# Altium footprint library pcb lib.PcbLib: 160 footprints (part 7 of 10)
Each footprint in its own frame and in the unit in brackets; x right, y up, seen from the top. Pads: shape width x height; smd on the part's side, far side on the other; paste and mask are expansions set on the pad; w line width, h text height; cw(c..) or ccw(c..) is an arc to the next point about the centre after c.
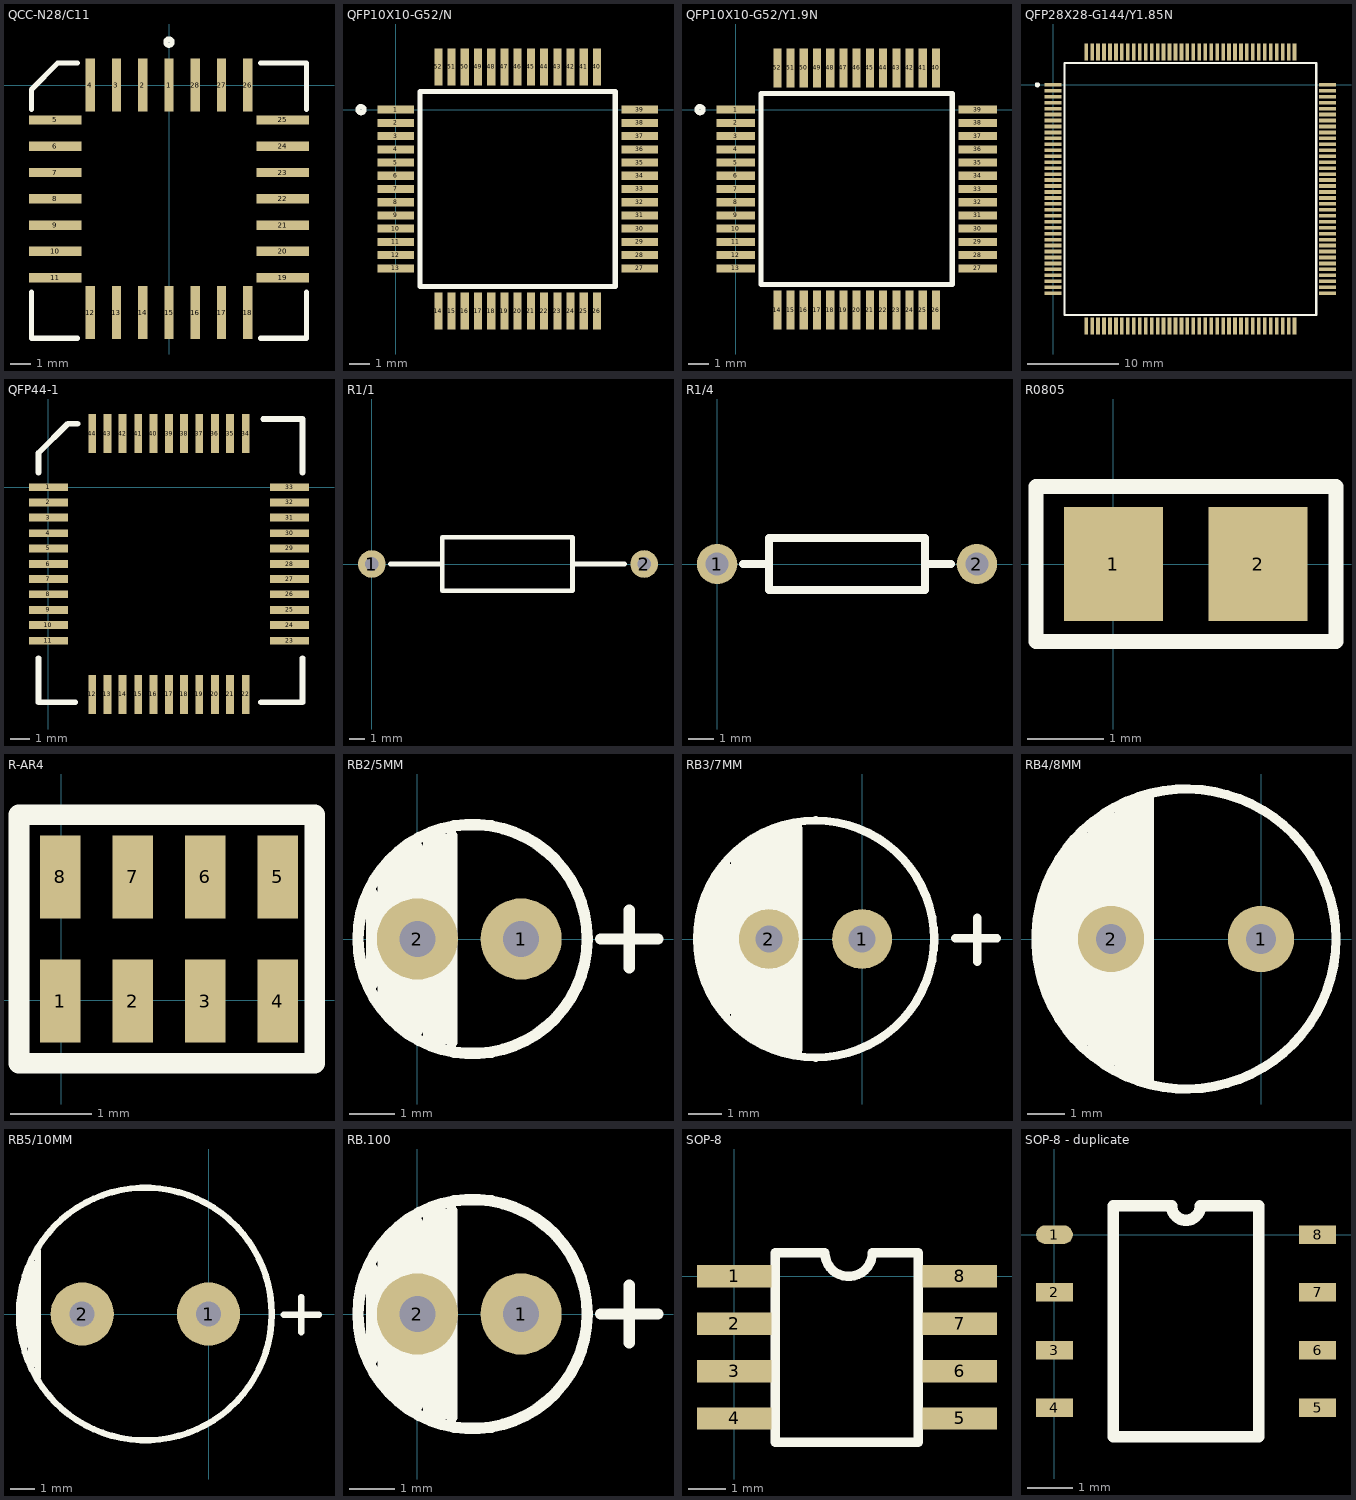
[diagram p6: the footprints below, top view; thin cyan lines are the x and y axes]

## QCC-N28/C11 [mm]
pads (28):
  rect 0.45x2.55 smd: 1(0,0) 2(-1.27,0) 3(-2.54,0) 4(-3.81,0) 12(-3.81,-11) 13(-2.54,-11) 14(-1.27,-11) 15(0,-11) 16(1.27,-11) 17(2.54,-11) 18(3.81,-11) 26(3.81,0) 27(2.54,0) 28(1.27,0)
  rect 2.55x0.45 smd: 5(-5.5,-1.69) 6(-5.5,-2.96) 7(-5.5,-4.23) 8(-5.5,-5.5) 9(-5.5,-6.77) 10(-5.5,-8.04) 11(-5.5,-9.31) 19(5.5,-9.31) 20(5.5,-8.04) 21(5.5,-6.77) 22(5.5,-5.5) 23(5.5,-4.23) 24(5.5,-2.96) 25(5.5,-1.69)
Top Overlay:
  circle w0.25: c0,2.075 r0.15
  lines w0.25: -6.65,-10.007 -6.65,-12.237 -4.42,-12.237 ; -6.65,-1.168 -6.65,-0.212 -5.375,1.063 -4.42,1.063 ; 4.42,-12.237 6.65,-12.237 6.65,-10.007 ; 4.42,1.063 6.65,1.063 6.65,-1.168

## QFP10X10-G52/N [mm]
pads (52):
  rect 1.8x0.4 smd: 1(0,0) 2(0,-0.65) 3(0,-1.3) 4(0,-1.95) 5(0,-2.6) 6(0,-3.25) 7(0,-3.9) 8(0,-4.55) 9(0,-5.2) 10(0,-5.85) 11(0,-6.5) 12(0,-7.15) 13(0,-7.8) 27(12,-7.8) 28(12,-7.15) 29(12,-6.5) 30(12,-5.85) 31(12,-5.2) 32(12,-4.55) 33(12,-3.9) 34(12,-3.25) 35(12,-2.6) 36(12,-1.95) 37(12,-1.3) 38(12,-0.65) 39(12,0)
  rect 0.4x1.8 smd: 14(2.1,-9.9) 15(2.75,-9.9) 16(3.4,-9.9) 17(4.05,-9.9) 18(4.7,-9.9) 19(5.35,-9.9) 20(6,-9.9) 21(6.65,-9.9) 22(7.3,-9.9) 23(7.95,-9.9) 24(8.6,-9.9) 25(9.25,-9.9) 26(9.9,-9.9) 40(9.9,2.1) 41(9.25,2.1) 42(8.6,2.1) 43(7.95,2.1) 44(7.3,2.1) 45(6.65,2.1) 46(6,2.1) 47(5.35,2.1) 48(4.7,2.1) 49(4.05,2.1) 50(3.4,2.1) 51(2.75,2.1) 52(2.1,2.1)
Top Overlay:
  circle w0.25: c-1.7,0 r0.15
  lines w0.25: 1.2,-8.7 10.8,-8.7 10.8,0.9 1.2,0.9 1.2,-8.7

## QFP10X10-G52/Y1.9N [mm]
pads (52):
  rect 1.9x0.4 smd: 1(0,0) 2(0,-0.65) 3(0,-1.3) 4(0,-1.95) 5(0,-2.6) 6(0,-3.25) 7(0,-3.9) 8(0,-4.55) 9(0,-5.2) 10(0,-5.85) 11(0,-6.5) 12(0,-7.15) 13(0,-7.8) 27(11.9,-7.8) 28(11.9,-7.15) 29(11.9,-6.5) 30(11.9,-5.85) 31(11.9,-5.2) 32(11.9,-4.55) 33(11.9,-3.9) 34(11.9,-3.25) 35(11.9,-2.6) 36(11.9,-1.95) 37(11.9,-1.3) 38(11.9,-0.65) 39(11.9,0)
  rect 0.4x1.9 smd: 14(2.05,-9.85) 15(2.7,-9.85) 16(3.35,-9.85) 17(4,-9.85) 18(4.65,-9.85) 19(5.3,-9.85) 20(5.95,-9.85) 21(6.6,-9.85) 22(7.25,-9.85) 23(7.9,-9.85) 24(8.55,-9.85) 25(9.2,-9.85) 26(9.85,-9.85) 40(9.85,2.05) 41(9.2,2.05) 42(8.55,2.05) 43(7.9,2.05) 44(7.25,2.05) 45(6.6,2.05) 46(5.95,2.05) 47(5.3,2.05) 48(4.65,2.05) 49(4,2.05) 50(3.35,2.05) 51(2.7,2.05) 52(2.05,2.05)
Top Overlay:
  circle w0.25: c-1.75,0 r0.15
  lines w0.25: 1.25,-8.6 1.25,0.8 10.65,0.8 10.65,-8.6 1.25,-8.6

## QFP28X28-G144/Y1.85N [mm]
pads (144):
  rect 1.85x0.4 smd: 1(0,0) 2(0,-0.65) 3(0,-1.3) 4(0,-1.95) 5(0,-2.6) 6(0,-3.25) 7(0,-3.9) 8(0,-4.55) 9(0,-5.2) 10(0,-5.85) 11(0,-6.5) 12(0,-7.15) 13(0,-7.8) 14(0,-8.45) 15(0,-9.1) 16(0,-9.75) 17(0,-10.4) 18(0,-11.05) 19(0,-11.7) 20(0,-12.35) 21(0,-13) 22(0,-13.65) 23(0,-14.3) 24(0,-14.95) 25(0,-15.6) 26(0,-16.25) 27(0,-16.9) 28(0,-17.55) 29(0,-18.2) 30(0,-18.85) 31(0,-19.5) 32(0,-20.15) 33(0,-20.8) 34(0,-21.45) 35(0,-22.1) 36(0,-22.75) 73(29.95,-22.75) 74(29.95,-22.1) 75(29.95,-21.45) 76(29.95,-20.8) 77(29.95,-20.15) 78(29.95,-19.5) 79(29.95,-18.85) 80(29.95,-18.2) 81(29.95,-17.55) 82(29.95,-16.9) 83(29.95,-16.25) 84(29.95,-15.6) 85(29.95,-14.95) 86(29.95,-14.3) 87(29.95,-13.65) 88(29.95,-13) 89(29.95,-12.35) 90(29.95,-11.7) 91(29.95,-11.05) 92(29.95,-10.4) 93(29.95,-9.75) 94(29.95,-9.1) 95(29.95,-8.45) 96(29.95,-7.8) 97(29.95,-7.15) 98(29.95,-6.5) 99(29.95,-5.85) 100(29.95,-5.2) 101(29.95,-4.55) 102(29.95,-3.9) 103(29.95,-3.25) 104(29.95,-2.6) 105(29.95,-1.95) 106(29.95,-1.3) 107(29.95,-0.65) 108(29.95,0)
  rect 0.4x1.85 smd: 37(3.6,-26.35) 38(4.25,-26.35) 39(4.9,-26.35) 40(5.55,-26.35) 41(6.2,-26.35) 42(6.85,-26.35) 43(7.5,-26.35) 44(8.15,-26.35) 45(8.8,-26.35) 46(9.45,-26.35) 47(10.1,-26.35) 48(10.75,-26.35) 49(11.4,-26.35) 50(12.05,-26.35) 51(12.7,-26.35) 52(13.35,-26.35) 53(14,-26.35) 54(14.65,-26.35) 55(15.3,-26.35) 56(15.95,-26.35) 57(16.6,-26.35) 58(17.25,-26.35) 59(17.9,-26.35) 60(18.55,-26.35) 61(19.2,-26.35) 62(19.85,-26.35) 63(20.5,-26.35) 64(21.15,-26.35) 65(21.8,-26.35) 66(22.45,-26.35) 67(23.1,-26.35) 68(23.75,-26.35) 69(24.4,-26.35) 70(25.05,-26.35) 71(25.7,-26.35) 72(26.35,-26.35) 109(26.35,3.6) 110(25.7,3.6) 111(25.05,3.6) 112(24.4,3.6) 113(23.75,3.6) 114(23.1,3.6) 115(22.45,3.6) 116(21.8,3.6) 117(21.15,3.6) 118(20.5,3.6) 119(19.85,3.6) 120(19.2,3.6) 121(18.55,3.6) 122(17.9,3.6) 123(17.25,3.6) 124(16.6,3.6) 125(15.95,3.6) 126(15.3,3.6) 127(14.65,3.6) 128(14,3.6) 129(13.35,3.6) 130(12.7,3.6) 131(12.05,3.6) 132(11.4,3.6) 133(10.75,3.6) 134(10.1,3.6) 135(9.45,3.6) 136(8.8,3.6) 137(8.15,3.6) 138(7.5,3.6) 139(6.85,3.6) 140(6.2,3.6) 141(5.55,3.6) 142(4.9,3.6) 143(4.25,3.6) 144(3.6,3.6)
Top Overlay:
  circle w0.25: c-1.725,0 r0.15
  lines w0.25: 1.225,-25.125 1.225,2.375 28.725,2.375 28.725,-25.125 1.225,-25.125

## QFP44-1 [mil]
pads (44):
  rect 80x16 smd: 1(0,0) 2(0,-31) 3(0,-62) 4(0,-94) 5(0,-125) 6(0,-157) 7(0,-188) 8(0,-219) 9(0,-251) 10(0,-282) 11(0,-314) 23(494,-314) 24(494,-282) 25(494,-251) 26(494,-219) 27(494,-188) 28(494,-157) 29(494,-125) 30(494,-94) 31(494,-62) 32(494,-31) 33(494,0)
  rect 16x80 smd: 12(90,-424) 13(121,-424) 14(152,-424) 15(184,-424) 16(215,-424) 17(247,-424) 18(278,-424) 19(309,-424) 20(341,-424) 21(372,-424) 22(404,-424) 34(404,110) 35(372,110) 36(341,110) 37(309,110) 38(278,110) 39(247,110) 40(215,110) 41(184,110) 42(152,110) 43(121,110) 44(90,110)
Top Overlay:
  lines w12: -20,-350 -20,-440 55,-440 ; -20,30 -20,70 40,130 60,130 ; 435,-440 520,-440 520,-350 ; 440,140 520,140 520,30

## R1/1 [mm]
pads (2):
  round 1.8 hole 0.9: 1(0,0) 2(17.78,0)
Top Overlay:
  lines w0.305: 1.2,0 4.6,0 ; 4.6,-1.75 4.6,1.75 13.1,1.75 13.1,-1.75 4.7,-1.75 ; 13.1,0 16.5,0

## R1/4 [mil]
pads (2):
  round 62 hole 35.43: 1(0,0) 2(400,0)
Top Overlay:
  lines w12: 40,0 80,0 ; 320,0 360,0 ; 80,-40 320,-40 320,40 80,40 80,-40

## R0805 [mm]
pads (2):
  rect 1.3x1.5 smd: 1(0,0) 2(1.9,0)
Top Overlay:
  lines w0.2: -1.016,-1.016 2.921,-1.016 2.921,1.016 -1.016,1.016 -1.016,-1.016

## R-AR4 [mm]
pads (8):
  rect 0.5x1.016 smd: 1(-0.008,-0.012) 2(0.881,-0.012) 3(1.77,-0.012) 4(2.659,-0.012) 5(2.659,1.512) 6(1.77,1.512) 7(0.881,1.512) 8(-0.008,1.512)
Top Overlay:
  lines w0.254: 3.065,-0.774 -0.516,-0.774 -0.516,2.274 3.116,2.274 3.116,-0.774

## RB2/5MM [mm]
pads (2):
  round 1.8 hole 0.8: 1(2.3,0) 2(0,0)
Top Overlay:
  circle w0.254: c1.224,0 r2.54
  lines w0.254: -1.016,-1.016 -1.016,1.016 ; -0.762,-1.524 -0.762,1.524 ; -0.508,-1.778 -0.508,1.778 ; -0.254,-2.032 -0.254,2.032 ; 0,-2.032 0,2.032 ; 0.254,-2.286 0.254,2.286 ; 0.508,-2.286 0.508,2.286 ; 0.762,-2.286 0.762,2.286 ; 4.064,0 5.334,0 ; 4.699,-0.635 4.699,0.635

## RB3/7MM [mm]
pads (2):
  round 1.8 hole 0.8: 1(0,0) 2(-2.794,0)
Top Overlay:
  circle w0.254: c-1.397,0 r3.556
  lines w0.254: -3.81,-2.54 -3.81,2.54 ; -3.556,-2.794 -3.556,2.794 ; -3.048,-3.048 -3.048,3.048 ; -2.286,-3.302 -2.286,3.302 ; 2.794,0.016 4.048,0.016 ; 3.454,-0.686 3.454,0.635
  lines w0.3: -4.826,-0.762 -4.826,0.762 ; -4.572,-1.524 -4.572,1.524 ; -4.318,-1.778 -4.318,1.778 ; -2.54,-3.302 -2.54,3.302
  lines w0.5: -4.064,-2.032 -4.064,2.032 ; -3.302,-2.794 -3.302,2.794 ; -2.794,-3.048 -2.794,3.048 ; -2.032,-3.302 -2.032,3.302

## RB4/8MM [mm]
pads (2):
  round 1.8 hole 0.8: 1(0,0) 2(-4.064,0)
Top Overlay:
  circle w0.254: c-2.032,0 r4.064
  lines w0.254: -5.08,-2.54 -5.08,2.54 ; -4.572,-3.048 -4.572,3.048
  lines w0.3: -5.842,-1.27 -5.842,1.27 ; -5.588,-1.778 -5.588,1.778 ; -5.334,-2.286 -5.334,2.286 ; -4.826,-2.794 -4.826,2.794 ; -4.318,-3.302 -4.318,3.302 ; -4.064,-3.302 -4.064,3.302 ; -3.81,-3.556 -3.81,3.556 ; -3.556,-3.556 -3.556,3.556 ; -3.302,-3.81 -3.302,3.81 ; -3.048,-3.81 -3.048,3.81

## RB5/10MM [mm]
pads (2):
  round 2.54 hole 1: 1(0,0) 2(-5.08,0)
Top Overlay:
  circle w0.254: c-2.54,0 r5.08
  lines w0.254: -7.366,-1.27 -7.366,1.524 ; -6.858,-2.54 -6.858,2.54 ; 3.023,-0.025 4.442,-0.025 ; 3.734,-0.737 3.734,0.686
  lines w0.305: -7.112,-2.032 -7.112,2.032

## RB.100 [mm]
pads (2):
  round 1.8 hole 0.8: 1(2.3,0) 2(0,0)
Top Overlay:
  circle w0.254: c1.224,0 r2.54
  lines w0.254: -1.016,-1.016 -1.016,1.016 ; -0.762,-1.524 -0.762,1.524 ; -0.508,-1.778 -0.508,1.778 ; -0.254,-2.032 -0.254,2.032 ; 0,-2.032 0,2.032 ; 0.254,-2.286 0.254,2.286 ; 0.508,-2.286 0.508,2.286 ; 0.762,-2.286 0.762,2.286 ; 4.064,0 5.334,0 ; 4.699,-0.635 4.699,0.635

## SOP-8 [mm]
pads (8):
  rect 2x0.6 smd: 1(0,0) 2(0,-1.27) 3(0,-2.54) 4(0,-3.81) 5(6.048,-3.81) 6(6.048,-2.54) 7(6.048,-1.27) 8(6.048,0)
Top Overlay:
  lines w0.254: 1.098,-4.445 1.098,0.635 2.433,0.635 ccw(c3.068,0.635) 3.703,0.635 4.938,0.635 4.938,-4.445 1.098,-4.445

## SOP-8 - duplicate [mil] "stc"
pads (8):
  oval 32x16 smd: 1(0,0)
  rect 32x16 smd: 2(0,-50) 3(0,-100) 4(0,-150) 5(228,-150) 6(228,-100) 7(228,-50) 8(228,0)
Top Overlay:
  lines w10: 51,-175 51,25 101.5,25 ccw(c114,25) 126.5,25 177,25 177,-175 51,-175